# Altium schematic symbol library Connectors.SchLib: 3 symbols
Pins are listed as number, name and electrical type; pins without a type are passive.

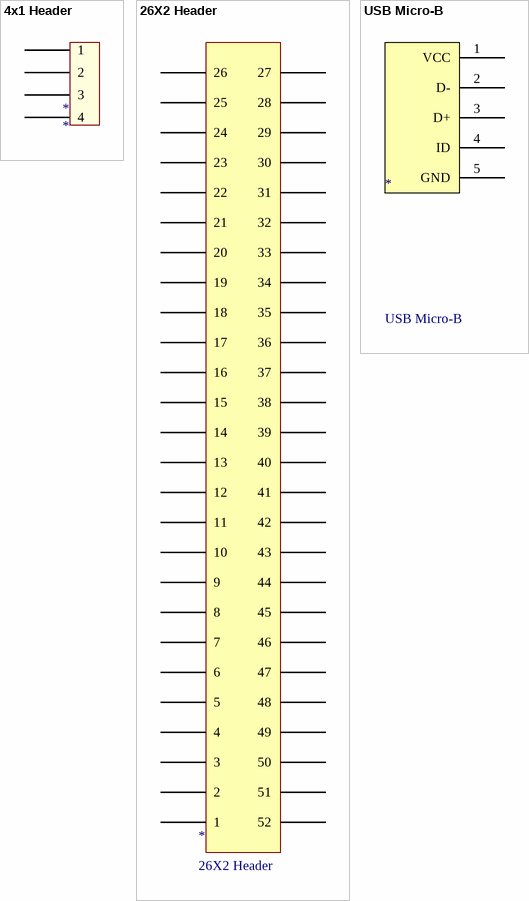
[diagram p0: symbols 4x1 Header to USB Micro-B]

## 4x1 Header
designator *
footprint 4X1 HEADER
pins: 1, 2, 3, 4

## 26X2 Header
designator *
26X2 Through-Hole Header
footprint 26X2 Header
pins: 1, 2, 3, 4, 5, 6, 7, 8, 9, 10, 11, 12, 13, 14, 15, 16, 17, 18, 19, 20, 21, 22, 23, 24, 25, 26, 27, 28, 29, 30, 31, 32, 33, 34, 35, 36, 37, 38, 39, 40, 41, 42, 43, 44, 45, 46, 47, 48, 49, 50, 51, 52

## USB Micro-B
designator *
CONN RCPT USB TYPE B 3A; Manufacturer Part Number: 629105150521; Manufacturer: Wurth Electronics Inc.; Supplier 1: Digi-Key; Supplier Part Number 1: 609-4616-1-ND
footprint Micro USB B
pins: 1 VCC, 2 D-, 3 D+, 4 ID, 5 GND